# Altium schematic symbol library EMDC_Connectors.SchLib: 49 symbols
Pins are listed as number, name and electrical type; pins without a type are passive.

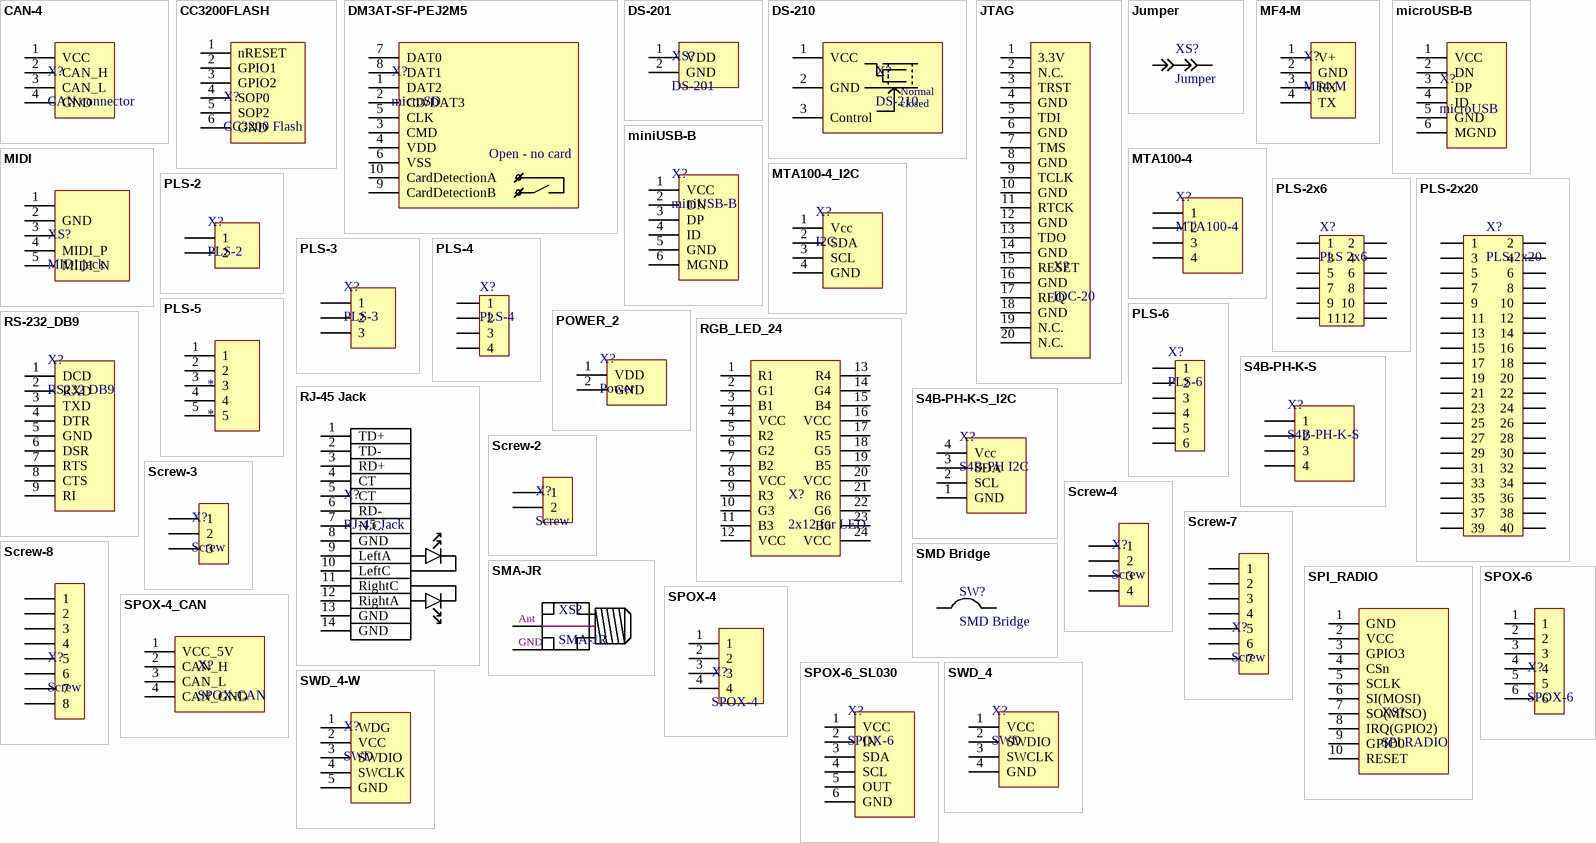
[diagram p0: symbols CAN-4 to SWD_4-W]

## CAN-4
designator X?, comment CAN connector
footprint PLS-1-4
footprint PLL-1-4
footprint CAN-4
footprint CAN-4M
pins: 1 VCC, 2 CAN_H, 3 CAN_L, 4 GND

## CC3200FLASH
designator X?, comment CC3200 Flash
TI CC3200 Flash programming connector
footprint PLS-1-6
footprint CC3200FLASH
pins: 1 nRESET, 2 GPIO1, 3 GPIO2, 4 SOP0, 5 SOP2, 6 GND

## DM3AT-SF-PEJ2M5
designator X?, comment microSD
DM3AT-SF-PEJ2M5 microSD card socket
pins: 1 DAT2, 2 CD/DAT3, 3 CMD, 4 VDD, 5 CLK, 6 VSS, 7 DAT0, 8 DAT1, 9 CardDetectionB, 10 CardDetectionA
text: Open - no card

## DS-201
designator XS?
Power connector
footprint DS-201
pins: 1 VDD, 2 GND

## DS-210
designator X?
DS-210 power connector
footprint DS-210 (DS-210 power connector)
pins: 1 VCC, 2 GND, 3 Control
text: Normal; closed

## JTAG
designator X?, comment IDC-20
JTAG - IDC-20
footprint IDC-20 (IDC-20 Male Connector)
pins: 1 3.3V, 2 N.C., 3 TRST, 4 GND, 5 TDI, 6 GND, 7 TMS, 8 GND, 9 TCLK, 10 GND, 11 RTCK, 12 GND, 13 TDO, 14 GND, 15 RESET, 16 GND, 17 REQ, 18 GND, 19 N.C., 20 N.C.

## Jumper
designator XS?
On-board jumper
footprint PLS-1-2
footprint PLL-1-2
pins: 1 A, 2 A

## MF4-M
designator X?
Molex MF4-M
footprint MF-4 (MOLEX MiniFit 4 Male Connector)
footprint MF-4 NC (MOLEX MiniFit 4 (no catch))
pins: 1 V+, 2 GND, 3 RX, 4 TX

## microUSB-B
designator X?, comment microUSB
microUSB type B SMD connector
footprint microUSB-B
pins: 1 VCC, 2 DN, 3 DP, 4 ID, 5 GND, 6 MGND

## MIDI
designator XS?, comment MIDI jack
DIN-5 MIDI jack
pins: 1, 2 GND, 3, 4 MIDI_P, 5 MIDI_N

## miniUSB-B
designator X?
miniUSB type B SMD connector
footprint miniUSB-B (miniUSB type B 5 pin)
pins: 1 VCC, 2 DN, 3 DP, 4 ID, 5 GND, 6 MGND

## MTA100-4
designator X?
TE MTA100-4 connector
footprint MTA100-4 (TE Connectivity MTA100-4 connector on board)
pins: 1, 2, 3, 4

## MTA100-4_I2C
designator X?, comment I2C
TE MTA100-4 coonnector for I2C
footprint MTA100-4 (TE Connectivity MTA100-4 connector on board)
pins: 1 Vcc, 2 SDA, 3 SCL, 4 GND

## PLS-2
designator X?
footprint PLS-1-2
pins: 1, 2

## PLS-2x6
designator X?, comment PLS 2x6
footprint PLS-2-6
pins: 1, 2, 3, 4, 5, 6, 7, 8, 9, 10, 11, 12

## PLS-2x20
designator X?
footprint PLS-2-20
pins: 1, 2, 3, 4, 5, 6, 7, 8, 9, 10, 11, 12, 13, 14, 15, 16, 17, 18, 19, 20, 21, 22, 23, 24, 25, 26, 27, 28, 29, 30, 31, 32, 33, 34, 35, 36, 37, 38, 39, 40

## PLS-3
designator X?
footprint PLS-1-3
pins: 1, 2, 3

## PLS-4
designator X?
footprint PLS-1-4
pins: 1, 2, 3, 4

## PLS-5
designator *
footprint PLS-1-5
pins: 1, 2, 3, 4, 5

## PLS-6
designator X?
footprint PLS-1-6
pins: 1, 2, 3, 4, 5, 6

## POWER_2
designator X?, comment Power
Power connector 2pin
footprint PLS-1-2
pins: 1 VDD, 2 GND

## RGB_LED_24
designator X?, comment 2x12 for LED
Connector for 6 RGB LED
footprint PLS-2-12
pins: 1 R1, 2 G1, 3 B1, 4 VCC, 5 R2, 6 G2, 7 B2, 8 VCC, 9 R3, 10 G3, 11 B3, 12 VCC, 13 R4, 14 G4, 15 B4, 16 VCC, 17 R5, 18 G5, 19 B5, 20 VCC, 21 R6, 22 G6, 23 B6, 24 VCC

## RJ-45 Jack
designator X?
Ethernet jack
footprint J011D21BNL (RJ45 Jack with Transformers and Lights)
pins: 1 TD+, 2 TD-, 3 RD+, 4 CT, 5 CT, 6 RD-, 7 N.C., 8 GND, 9 LeftA, 10 LeftC, 11 RightC, 12 RightA, 13 GND, 14 GND

## RS-232_DB9
designator X?, comment RS232 DB9
footprint DB-9
pins: 1 DCD, 2 RXD, 3 TXD, 4 DTR, 5 GND, 6 DSR, 7 RTS, 8 CTS, 9 RI

## S4B-PH-K-S
designator X?
JST S4B-PH-K-S connector 4pin
footprint S4B-PH-K-S (JST S4B-PH-K-S connector)
pins: 1, 2, 3, 4

## S4B-PH-K-S_I2C
designator X?, comment S4B-PH I2C
JST S4B-PH-K-S connector 4pin for I2C
footprint S4B-PH-K-S (JST S4B-PH-K-S connector)
pins: 1 GND, 2 SCL, 3 SDA, 4 Vcc

## Screw-2
designator X?, comment Screw
Screw terminal block, 2 pins
footprint Screw-2
pins: 1 (power), 2 (power)

## Screw-3
designator X?, comment Screw
Screw terminal block, 3 pins
footprint Screw-3
pins: 1 (power), 2 (power), 3 (power)

## Screw-4
designator X?, comment Screw
Screw terminal block, 4 pins
footprint Screw-4
pins: 1 (power), 2 (power), 3 (power), 4 (power)

## Screw-7
designator X?, comment Screw
Screw terminal block, 7 pins
footprint Screw-7
pins: 1 (power), 2 (power), 3 (power), 4 (power), 5 (power), 6 (power), 7 (power)

## Screw-8
designator X?, comment Screw
Screw terminal block, 8 pins
footprint Screw-8
pins: 1 (power), 2 (power), 3 (power), 4 (power), 5 (power), 6 (power), 7 (power), 8 (power)

## SMA-JR
designator XS?
SMA-JR connector (board-mount)
footprint SMA-JR
pins: SMA_ANT ANT, SMA_GND 2
text: Ant; GND

## SMD Bridge
designator SW?
Solderable SMD bridge
footprint SMD Bridge
pins: 1 (power), 2 (power)

## SPI_RADIO
designator XS?, comment SPI RADIO
Connector for radio modules (NRF24 and others)
footprint PLS-2-5
pins: 1 GND, 2 VCC, 3 GPIO3, 4 CSn, 5 SCLK, 6 SI(MOSI), 7 SO(MISO), 8 IRQ(GPIO2), 9 GPIO0, 10 RESET

## SPOX-4
designator X?
SPOX-4 connector
footprint SPOX-4 (SPOX connector 4pin)
pins: 1, 2, 3, 4

## SPOX-4_CAN
designator X?, comment SPOX-CAN
SPOX CAN connector
footprint SPOX-4 (SPOX connector 4pin)
footprint SPOX-4_CAN
pins: 1 VCC_5V, 2 CAN_H, 3 CAN_L, 4 CAN_GND

## SPOX-6
designator X?
SPOX-6 connector
footprint SPOX-6
pins: 1, 2, 3, 4, 5, 6

## SPOX-6_SL030
designator X?, comment SPOX-6
SPOX-6 SL030 connector
footprint SPOX-6_SL030 (Connector for SL030 MIFARE reader)
pins: 1 VCC, 2 IN, 3 SDA, 4 SCL, 5 OUT, 6 GND

## SWD_4
designator X?, comment SWD
SWD connector
footprint PLS-1-4
footprint SWD-4
footprint PLL-1-4
footprint SWD-4-m
footprint SWD-4-2m
footprint SWD-4C (SWD connector)
footprint SWD-4M-P (SWD-4 mini pads)
pins: 1 VCC, 2 SWDIO, 3 SWCLK, 4 GND

## SWD_4-W
designator X?, comment SWD
SWD connector + Watchdog pin
footprint SWD-4-W
footprint PLS-1-5
footprint PLL-1-5
footprint SWD-4-MW
footprint SWD-4-2MW
pins: 1 WDG, 2 VCC, 3 SWDIO, 4 SWCLK, 5 GND

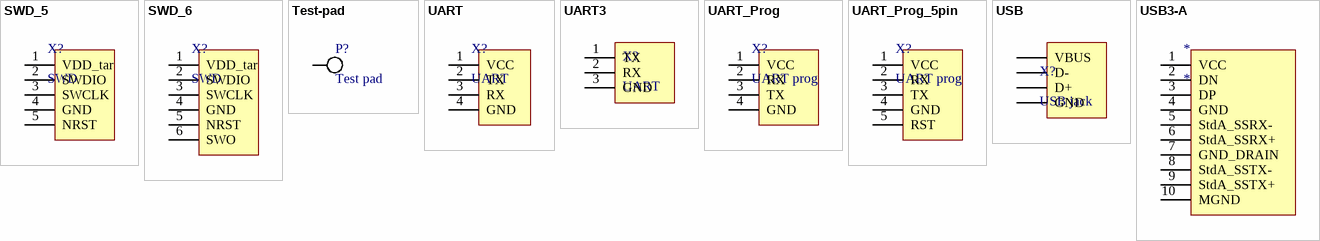
[diagram p1: symbols SWD_5 to USB3-A]

## SWD_5
designator X?, comment SWD
SWD-5 connector
footprint PLS-1-5
footprint SWD-5
footprint PLL-1-5
footprint SWD-5-M
pins: 1 VDD_tar, 2 SWDIO, 3 SWCLK, 4 GND, 5 NRST

## SWD_6
designator X?, comment SWD
SWD-6 connector
footprint PLS-1-6
footprint SWD-6-2M
footprint SWD-6
footprint SWD-6-m
footprint PLL-1-6
pins: 1 VDD_tar, 2 SWDIO, 3 SWCLK, 4 GND, 5 NRST, 6 SWO

## Test-pad
designator P?, comment Test pad
footprint TEST-PAD-ROUND
footprint TEST-PAD-RECT
pins: 1

## UART
designator X?
UART connector
footprint PLS-1-4
footprint PLL-1-4
footprint UART
footprint UART-2
footprint UART-2m
footprint UART-m
pins: 1 VCC, 2 TX, 3 RX, 4 GND

## UART3
designator X?, comment UART
UART connector 3pin
footprint PLL-1-3
footprint PLS-1-3
footprint UART3 (UART connector 3pin)
footprint UART3m (UART 3pin PLL)
pins: 1 TX, 2 RX, 3 GND

## UART_Prog
designator X?, comment UART prog
UART programm i-face
footprint PLL-1-4
footprint PLS-1-4
footprint UART_Prog
footprint UART_Prog_M
pins: 1 VCC, 2 RX, 3 TX, 4 GND

## UART_Prog_5pin
designator X?, comment UART prog
UART programm i-face 5pin (with RST)
footprint UART_Prog_5pin
footprint PLS-1-5
footprint PLL-1-5
pins: 1 VCC, 2 RX, 3 TX, 4 GND, 5 RST

## USB
designator X?, comment USB jack
USB jack THT
footprint USB-A
footprint USB-B
pins: 1 VBUS (power), 2 D- (power), 3 D+ (power), 4 GND (power)

## USB3-A
designator *
footprint USB3-A (USB 3.0 Type A connector)
pins: 1 VCC, 2 DN, 3 DP, 4 GND, 5 StdA_SSRX-, 6 StdA_SSRX+, 7 GND_DRAIN, 8 StdA_SSTX-, 9 StdA_SSTX+, 10 MGND